# Altium footprint library EnclosurePlusFasteners.PcbLib: 3 footprints
Each footprint in its own frame and in the unit in brackets; x right, y up, seen from the top. Pads: shape width x height; smd on the part's side, far side on the other; paste and mask are expansions set on the pad; w line width, h text height; cw(c..) or ccw(c..) is an arc to the next point about the centre after c.
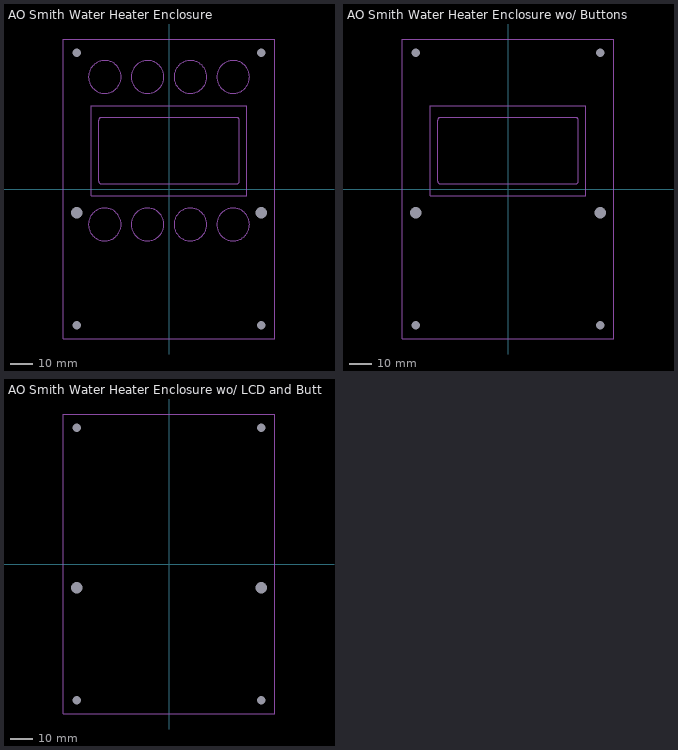
[diagram p0: the footprints below, top view; thin cyan lines are the x and y axes]

## AO Smith Water Heater Enclosure [mm] "AO Smith's Smart Water Heater Control Panel Enclosure"
pads (6):
  round 0 hole 3.7 unplated: 0(-41,-60.5) 0(-41,60.5) 0(41,-60.5) 0(41,60.5)
  round 0 hole 5 unplated: 0(-41,-10.5) 0(41,-10.5)
Mechanical 1:
  circle w0.254: c-9.5,-15.75 r7.25
  circle w0.254: c9.5,-15.75 r7.25
  circle w0.254: c28.5,-15.75 r7.25
  circle w0.254: c-28.5,-15.75 r7.25
  circle w0.254: c-28.5,49.75 r7.25
  circle w0.254: c-9.5,49.75 r7.25
  circle w0.254: c9.5,49.75 r7.25
  circle w0.254: c28.5,49.75 r7.25
  lines w0.254: -47,-66.6 -47,66.6 47,66.6 47,-66.6 -47,-66.6 ; -34.5,-3 -34.5,37 34.5,37 34.5,-3 -34.5,-3 ; -31.25,3.52 ccw(c-29.98,3.52) -29.98,2.25 29.98,2.25 ccw(c29.98,3.52) 31.25,3.52 31.25,30.48 ccw(c29.98,30.48) 29.98,31.75 -29.98,31.75 ccw(c-29.98,30.48) -31.25,30.48 -31.25,3.52

## AO Smith Water Heater Enclosure wo/ Buttons [mm] "AO Smith's Smart Water Heater Control Panel Enclosure Without Button Markings"
pads (6):
  round 0 hole 3.7 unplated: 0(-41,-60.5) 0(-41,60.5) 0(41,-60.5) 0(41,60.5)
  round 0 hole 5 unplated: 0(-41,-10.5) 0(41,-10.5)
Mechanical 1:
  lines w0.254: -47,-66.6 -47,66.6 47,66.6 47,-66.6 -47,-66.6 ; -34.5,-3 -34.5,37 34.5,37 34.5,-3 -34.5,-3 ; -31.25,3.52 ccw(c-29.98,3.52) -29.98,2.25 29.98,2.25 ccw(c29.98,3.52) 31.25,3.52 31.25,30.48 ccw(c29.98,30.48) 29.98,31.75 -29.98,31.75 ccw(c-29.98,30.48) -31.25,30.48 -31.25,3.52

## AO Smith Water Heater Enclosure wo/ LCD and Buttons [mm] "AO Smith's Smart Water Heater Control Panel Enclosure Without LCD and Button Markings"
pads (6):
  round 0 hole 3.7 unplated: 0(-41,-60.5) 0(-41,60.5) 0(41,-60.5) 0(41,60.5)
  round 0 hole 5 unplated: 0(-41,-10.5) 0(41,-10.5)
Mechanical 1:
  lines w0.254: -47,-66.6 47,-66.6 47,66.6 -47,66.6 -47,-66.6